# Altium schematic symbol library INA125U.Schlib: 1 symbol
Pins are listed as number, name and electrical type; pins without a type are passive.

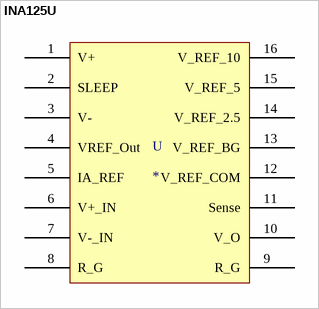
[diagram p0: symbol INA125U]

## INA125U
designator U
Insturmentation Op Amp - IC OPAMP INSTR 150KHZ SGL 16SOIC
pins: 1 V+, 2 SLEEP, 3 V-, 4 VREF_Out, 5 IA_REF, 6 V+_IN, 7 V-_IN, 8 R_G, 9 R_G, 10 V_O, 11 Sense, 12 V_REF_COM, 13 V_REF_BG, 14 V_REF_2.5, 15 V_REF_5, 16 V_REF_10